# Altium integrated library Crops_Predictor.IntLib: 8 symbols
Pins are listed as number, name and electrical type; pins without a type are passive.

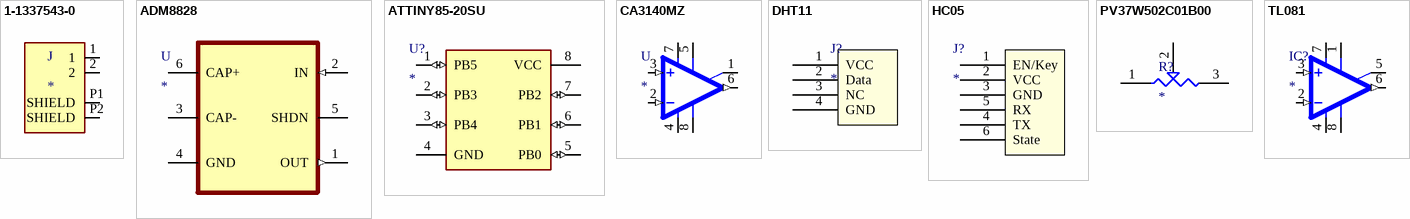
[diagram p0: symbols 1-1337543-0 to TL081]

## 1-1337543-0
designator J
Conn ZDC/BNC RCP 0Hz to 4GHz 50Ohm Solder RA Thru-Hole Gold Over Nickel Over Copper Individual; MF: TE Connectivity; MP: 1-1337543-0; Number_of_Positions: 1; Package: None; Price: None; Availability: Unavailable; TE_purchase_URL: https://www.te.com/usa-en/product-1-1337543-0.html?te_bu=Cor&te_type=disp&te_campaign=seda_glo_cor-seda-global-disp-prtnr-fy19-seda-model-bom-cta_sma-317_1&elqCampaignId=32493; SnapEDA_Link: https://www.snapeda.com/parts/1-1337543-0/TE%20Connectivity%20AMP%20Connectors/view-part/490820/?ref=snap; Value: *
footprint CONN_1-1337543-0
pins: 1, 2, P1 SHIELD, P2 SHIELD

## ADM8828
designator U
Switched-Capacitor / Voltage Inverter with Shutdown; MF: Analog Devices; Availability: Unavailable; Package: SOT-23-6 Analog Devices; Price: None; Value: *
footprint SOT-23-6
pins: 1 OUT (out), 2 IN (in), 3 CAP-, 4 GND (power), 5 SHDN (power), 6 CAP+

## ATTINY85-20SU
designator U?
AVR AVRÂ® ATtiny, IC de microcontrolador de seguridad funcional (FuSa) de 8 bits, 20 MHz, 8 KB (4K x 16), FLASH 8-SOIC; MP: ATTINY85-20SU; MF: Microchip; Package: SOIC-8 Microchip; SnapEDA_Link: https://www.snapeda.com/parts/ATTINY85-20SU/Microchip/view-part/681099/?ref=snap; Check_prices: https://www.snapeda.com/parts/ATTINY85-20SU/Microchip/view-part/681099/?ref=eda; Availability: In Stock; Value: *; Price: None
footprint SOIC127P798X216-8N
pins: 1 PB5 (io), 2 PB3 (io), 3 PB4 (io), 4 GND (power), 5 PB0 (io), 6 PB1 (io), 7 PB2 (io), 8 VCC (power)

## CA3140MZ
designator U
General Purpose Amplifier 1 Circuit 8-SOIC; MP: CA3140MZ; MF: Renesas Electronics; Availability: Unavailable; Price: None; Package: SOIC-8 Intersil; SnapEDA_Link: https://www.snapeda.com/parts/CA3140MZ/Renesas%20Electronics%20America%20Inc./view-part/105358/?ref=snap; Value: *
footprint SOIC127P600X175-8N
pins: 1 ON/CMP, 2 -IN (in), 3 +IN (in), 4 V- (power), 5 ON, 6 OUT (out), 7 V+ (power), 8 CMP

## DHT11
designator J?
footprint 4posF
pins: 1 VCC, 2 Data, 3 NC, 4 GND

## HC05
designator J?
footprint 6posf
pins: 1 EN/Key, 2 VCC, 3 GND, 4 TX, 5 RX, 6 State

## PV37W502C01B00
designator R?
Res Cermet Trimmer 5K Ohm 10% 0.25W(1/4W) 12(Elec)Turns 1.78mm (6.71 X 4.5 X 8.26mm) Pin Thru-Hole Tube; MF: Murata Electronics; MP: PV37W502C01B00; Price: None; Value: *; Check_prices: https://www.snapeda.com/parts/PV37W502C01B00/Murata/view-part/?ref=eda; Package: PV37W Murata; Availability: Not in stock; SnapEDA_Link: https://www.snapeda.com/parts/PV37W502C01B00/Murata/view-part/?ref=snap
footprint TRIM_PV37W502C01B00
pins: 1, 2, 3

## TL081
designator IC?
J-FET Amplifier 1 Circuit - 8-SOIC; MF: STMicroelectronics; MP: TL081; Availability: In Stock; SnapEDA_Link: https://www.snapeda.com/parts/TL081/STMicroelectronics/view-part/?ref=snap; Check_prices: https://www.snapeda.com/parts/TL081/STMicroelectronics/view-part/?ref=eda; Price: None; Package: SOIC-8 STMicroelectronics; Purchase-URL: https://pricing.snapeda.com/search/part/TL081/?ref=eda; Value: *
footprint SOIC127P600X175-8N
pins: 1 ON1, 2 -IN (in), 3 +IN (in), 4 V- (power), 5 ON2, 6 OUT (out), 7 V+ (power), 8 OPT